# EAGLE library part MINIMA (library minima)
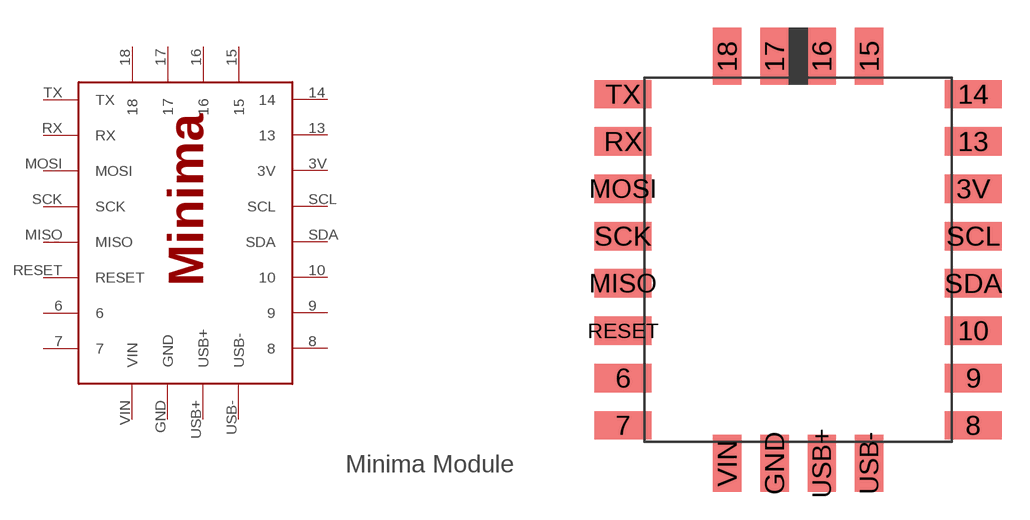
[diagram p0: symbol with the pads of MINIMA; footprint MINIMA]

Designator prefix -

## MINIMA  [MINIMA]
3V  3V
6  6
7  7
8  8
9  9
10  10
13  13
14  14
15  15
16  16
17  17
18  18
GND  GND
MISO  MISO
MOSI  MOSI
RESET  RESET
RX  RX
SCK  SCK
SCL  SCL
SDA  SDA
TX  TX
USB+  USB+
USB-  USB-
VIN  VIN

## Footprint MINIMA (pad centres in mm)
smd 3.048 x 1.524: 3V 17.653,-6.096; 6 -1.143,-16.256; 7 -1.143,-18.796; 8 17.653,-18.796; 9 17.653,-16.256; 10 17.653,-13.716; 13 17.653,-3.556; 14 17.653,-1.016; MISO -1.143,-11.176; MOSI -1.143,-6.096; RESET -1.143,-13.716; RX -1.143,-3.556; SCK -1.143,-8.636; SCL 17.653,-8.636; SDA 17.653,-11.176; TX -1.143,-1.016
smd 1.524 x 3.048: 15 12.065,1.016; 16 9.525,1.016; 17 6.985,1.016; 18 4.445,1.016; GND 6.985,-20.828; USB+ 9.525,-20.828; USB- 12.065,-20.828; VIN 4.445,-20.828